# Altium footprint library Microfon.PcbLib: 17 footprints (part 2 of 2)
Each footprint in its own frame and in the unit in brackets; x right, y up, seen from the top. Pads: shape width x height; smd on the part's side, far side on the other; paste and mask are expansions set on the pad; w line width, h text height; cw(c..) or ccw(c..) is an arc to the next point about the centre after c.
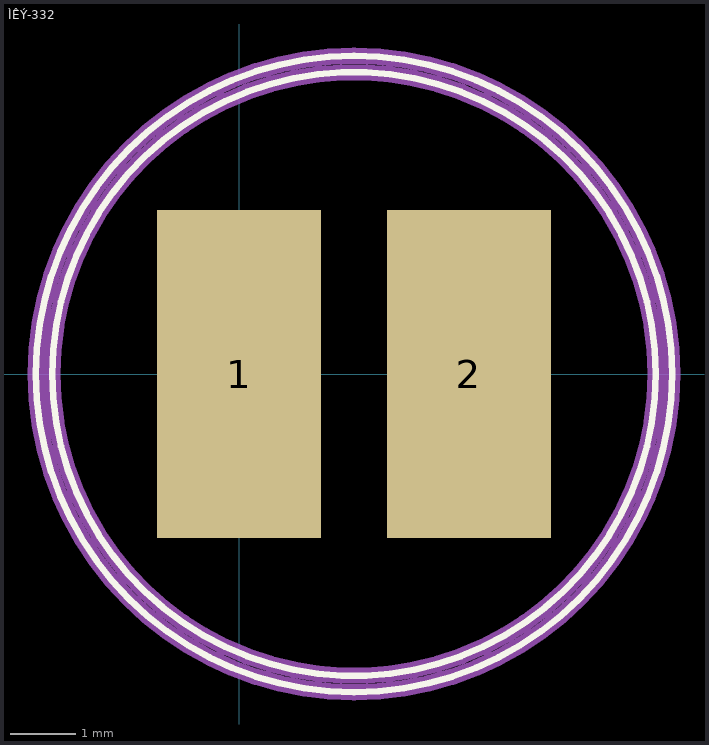
[diagram p1: the footprint, top view; thin cyan lines are the x and y axes]

## ÌÊÝ-332 [mm]
pads (2):
  rect 2.5x5 smd: 1(0,0) 2(3.5,0)
Top Overlay:
  lines w0.1: -3.1,0 cw(c1.75,0) 6.6,0 cw(c1.75,0) -3.1,0 ; -2.85,0 cw(c1.75,0) 6.35,0 cw(c1.75,0) -2.85,0
Mechanical 1:
  lines w0.25: -3.1,0 cw(c1.75,0) 6.6,0 cw(c1.75,0) -3.1,0 ; -2.85,0 cw(c1.75,0) 6.35,0 cw(c1.75,0) -2.85,0